# Altium schematic symbol library TNPV0805180KBEEA.SchLib: 1 symbol
Pins are listed as number, name and electrical type; pins without a type are passive.

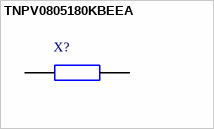
[diagram p0: symbol TNPV0805180KBEEA]

## TNPV0805180KBEEA
designator X?
Thin Film Resistors - SMD 180Kohms+/-0.1% 25ppm High Voltage  0805 (2012 Metric); Manufacturer_Name: Vishay; Geometry.Height: 0.55mm; Mouser Part Number: 71-TNPV0805180KBEEA; Mouser Price/Stock: https://www.mouser.co.uk/ProductDetail/Vishay/TNPV0805180KBEEA?qs=Li%252BoUPsLEnuke%2FRX4njE1w%3D%3D; Manufacturer_Part_Number: TNPV0805180KBEEA; Datasheet Link: https://www.vishay.com/docs/28881/tnpve3.pdf
footprint TNPV0805180KBEEA
pins: 1, 2